# EAGLE library part TLE7183F (library Infinion)
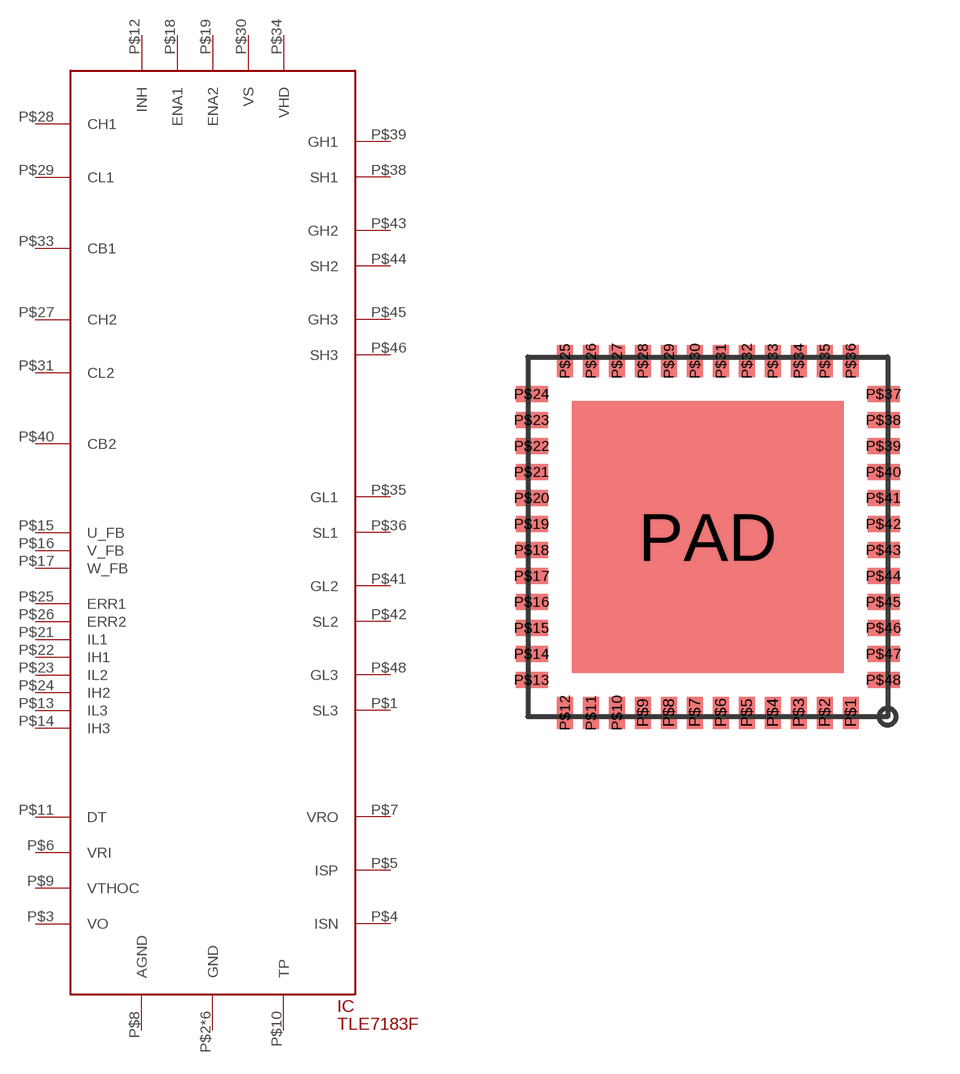
[diagram p0: symbol with the pads of PG-VQFN-48; footprint PG-VQFN-48]

Designator prefix IC

## TLE7183F  [PG-VQFN-48]
P$1  SL3
P$2  GND
P$3  VO
P$4  ISN
P$5  ISP
P$6  VRI
P$7  VRO
P$8  AGND
P$9  VTHOC
P$10  TP
P$11  DT
P$12  INH
P$13  IL3
P$14  IH3
P$15  U_FB
P$16  V_FB
P$17  W_FB
P$18  ENA1
P$19  ENA2
P$20  GND
P$21  IL1
P$22  IH1
P$23  IL2
P$24  IH2
P$25  ERR1
P$26  ERR2
P$27  CH2
P$28  CH1
P$29  CL1
P$30  VS
P$31  CL2
P$32  GND
P$33  CB1
P$34  VHD
P$35  GL1
P$36  SL1
P$37  GND
P$38  SH1
P$39  GH1
P$40  CB2
P$41  GL2
P$42  SL2
P$43  GH2
P$44  SH2
P$45  GH3
P$46  SH3
P$47  GND
P$48  GL3
PAD  GND

## Footprint PG-VQFN-48 (pad centres in mm)
smd 0.4 x 0.8: P$1 3.575,-4.4; P$2 2.925,-4.4; P$3 2.275,-4.4; P$4 1.625,-4.4; P$5 0.975,-4.4; P$6 0.325,-4.4; P$7 -0.325,-4.4; P$8 -0.975,-4.4; P$9 -1.625,-4.4; P$10 -2.275,-4.4; P$11 -2.925,-4.4; P$12 -3.575,-4.4; P$25 -3.575,4.4; P$26 -2.925,4.4; P$27 -2.275,4.4; P$28 -1.625,4.4; P$29 -0.975,4.4; P$30 -0.325,4.4; P$31 0.325,4.4; P$32 0.975,4.4; P$33 1.625,4.4; P$34 2.275,4.4; P$35 2.925,4.4; P$36 3.575,4.4
smd 0.8 x 0.4: P$13 -4.4,-3.575; P$14 -4.4,-2.925; P$15 -4.4,-2.275; P$16 -4.4,-1.625; P$17 -4.4,-0.975; P$18 -4.4,-0.325; P$19 -4.4,0.325; P$20 -4.4,0.975; P$21 -4.4,1.625; P$22 -4.4,2.275; P$23 -4.4,2.925; P$24 -4.4,3.575; P$37 4.4,3.575; P$38 4.4,2.925; P$39 4.4,2.275; P$40 4.4,1.625; P$41 4.4,0.975; P$42 4.4,0.325; P$43 4.4,-0.325; P$44 4.4,-0.975; P$45 4.4,-1.625; P$46 4.4,-2.275; P$47 4.4,-2.925; P$48 4.4,-3.575
smd 6.8 x 6.8: PAD 0,0